# Altium schematic symbol library myLib.SchLib: 33 symbols
Pins are listed as number, name and electrical type; pins without a type are passive.

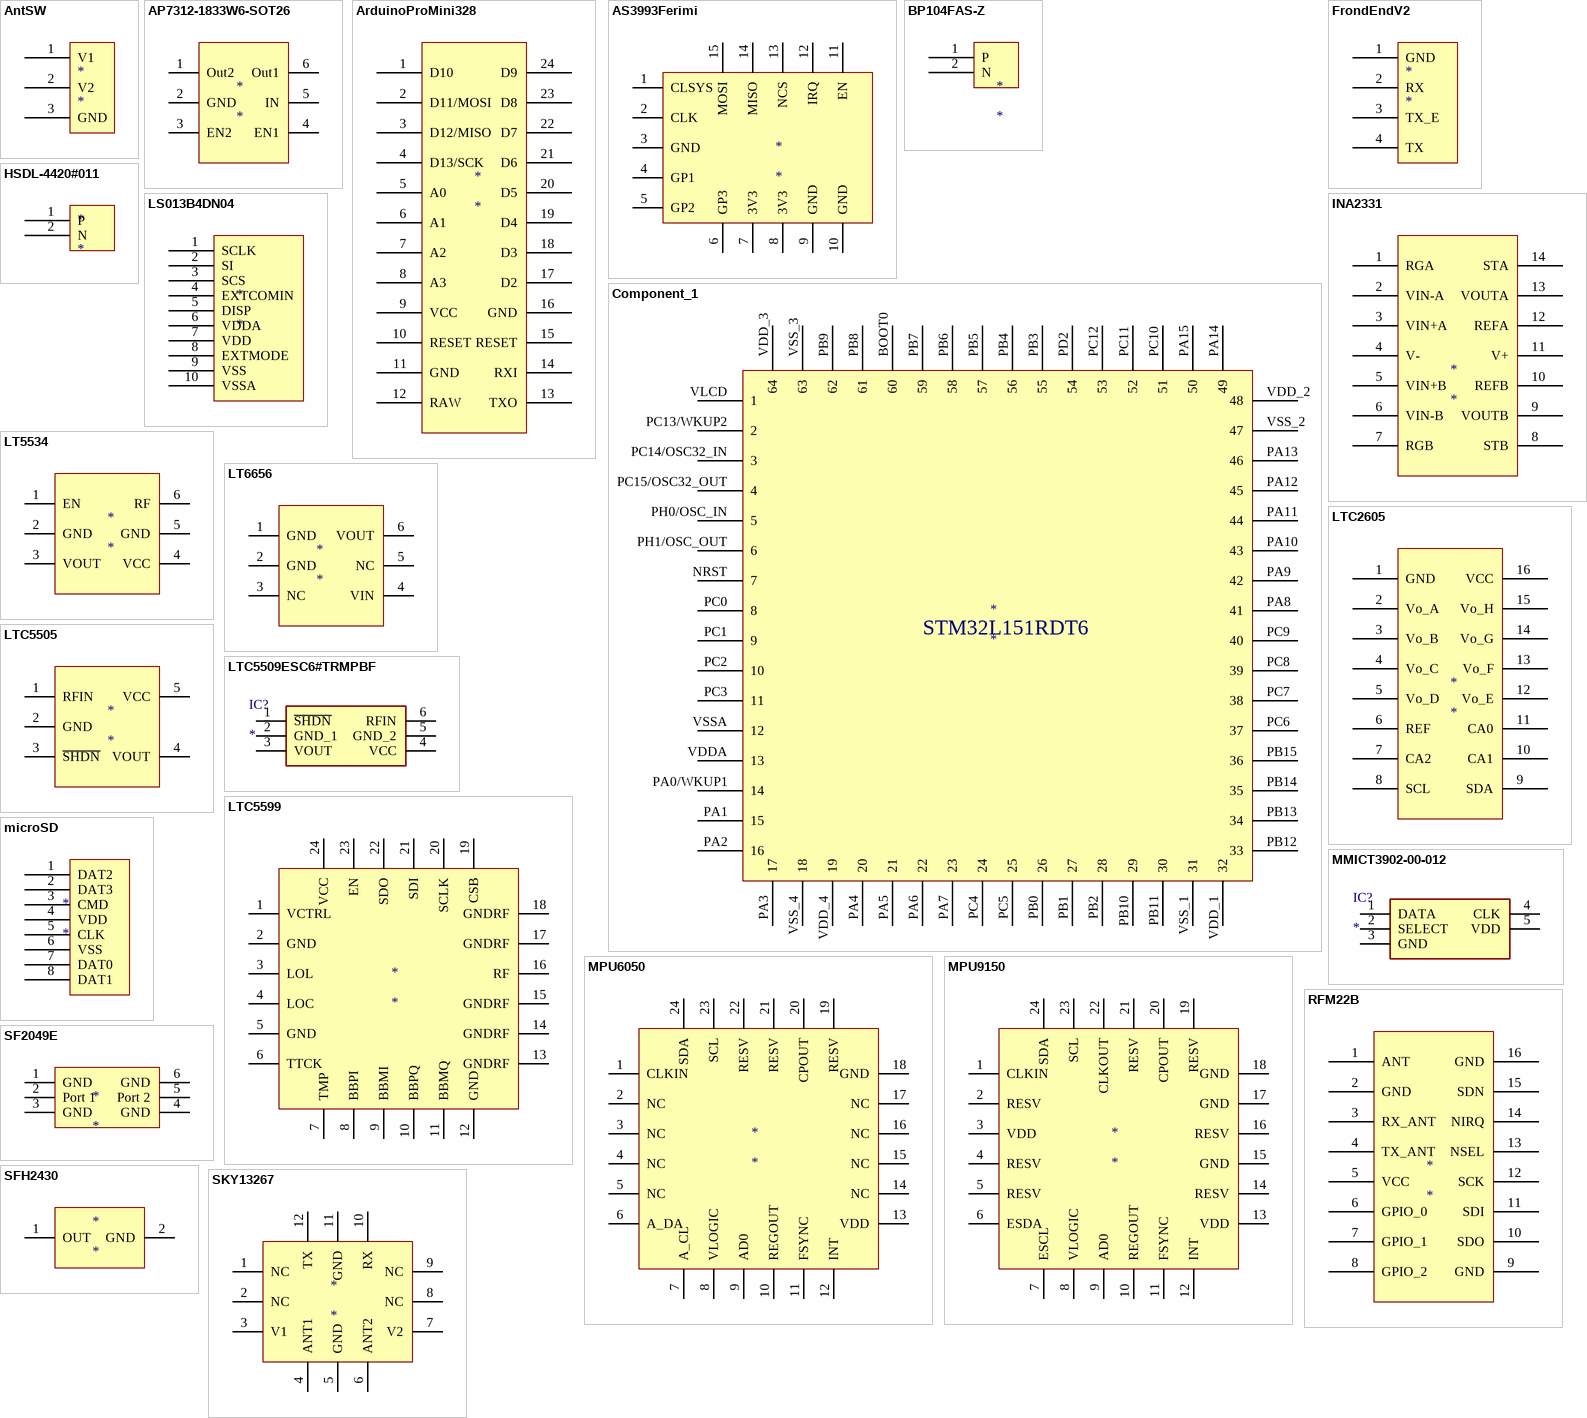
[diagram p0: symbols AntSW to SKY13267]

## AntSW
designator *
footprint AntSW
pins: 1 V1, 2 V2, 3 GND

## AP7312-1833W6-SOT26
designator *
pins: 1 Out2, 2 GND, 3 EN2, 4 EN1, 5 IN, 6 Out1

## ArduinoProMini328
designator *
footprint ArduinoProMini
pins: 1 D10, 2 D11/MOSI, 3 D12/MISO, 4 D13/SCK, 5 A0, 6 A1, 7 A2, 8 A3, 9 VCC, 10 RESET, 11 GND, 12 RAW, 13 TXO, 14 RXI, 15 RESET, 16 GND, 17 D2, 18 D3, 19 D4, 20 D5, 21 D6, 22 D7, 23 D8, 24 D9

## AS3993Ferimi
designator *
footprint AS3993Fermi
pins: 1 CLSYS, 2 CLK, 3 GND, 4 GP1, 5 GP2, 6 GP3, 7 3V3, 8 3V3, 9 GND, 10 GND, 11 EN, 12 IRQ, 13 NCS, 14 MISO, 15 MOSI

## BP104FAS-Z
designator *
pins: 1 P, 2 N

## Component_1
designator *
pins: BOOT0 60, NRST 7, PA0/WKUP1 14, PA1 15, PA2 16, PA3 17, PA4 20, PA5 21, PA6 22, PA7 23, PA8 41, PA9 42, PA10 43, PA11 44, PA12 45, PA13 46, PA14 49, PA15 50, PB0 26, PB1 27, PB2 28, PB3 55, PB4 56, PB5 57, PB6 58, PB7 59, PB8 61, PB9 62, PB10 29, PB11 30, PB12 33, PB13 34, PB14 35, PB15 36, PC0 8, PC1 9, PC2 10, PC3 11, PC4 24, PC5 25, PC6 37, PC7 38, PC8 39, PC9 40, PC10 51, PC11 52, PC12 53, PC13/WKUP2 2, PC14/OSC32_IN 3, PC15/OSC32_OUT 4, PD2 54, PH0/OSC_IN 5, PH1/OSC_OUT 6, VDD_1 32, VDD_2 48, VDD_3 64, VDD_4 19, VDDA 13, VLCD 1, VSS_1 31, VSS_2 47, VSS_3 63, VSS_4 18, VSSA 12
text: STM32L151RDT6

## FrondEndV2
designator *
footprint FrondEndV2
pins: 1 GND, 2 RX, 3 TX_E, 4 TX

## HSDL-4420#011
designator *
pins: 1 P, 2 N

## INA2331
designator *
footprint INA2331 (TSOP, 14-Leads, Body 5.00x4.40mm, Pitch 0.65mm, IPC Medium Density)
pins: 1 RGA, 2 VIN-A, 3 VIN+A, 4 V-, 5 VIN+B, 6 VIN-B, 7 RGB, 8 STB, 9 VOUTB, 10 REFB, 11 V+, 12 REFA, 13 VOUTA, 14 STA

## LS013B4DN04
designator *
pins: 1 SCLK, 2 SI, 3 SCS, 4 EXTCOMIN, 5 DISP, 6 VDDA, 7 VDD, 8 EXTMODE, 9 VSS, 10 VSSA

## LT5534
designator *
pins: 1 EN , 2 GND, 3 VOUT, 4 VCC, 5 GND, 6 RF

## LT6656
designator *
pins: 1 GND, 2 GND, 3 NC, 4 VIN, 5 NC, 6 VOUT

## LTC2605
designator *
pins: 1 GND, 2 Vo_A, 3 Vo_B, 4 Vo_C, 5 Vo_D, 6 REF, 7 CA2, 8 SCL, 9 SDA, 10 CA1, 11 CA0, 12 Vo_E, 13 Vo_F, 14 Vo_G, 15 Vo_H, 16 VCC

## LTC5505
designator *
pins: 1 RFIN, 2 GND, 3 ~{SHDN}, 4 VOUT, 5 VCC

## LTC5509ESC6#TRMPBF
designator IC?
Integrated Circuit; Manufacturer_Name: Analog Devices; Manufacturer_Part_Number: LTC5509ESC6#TRMPBF; Height: 1mm
footprint SOT65P210X100-6N
pins: 1 ~{SHDN}, 2 GND_1, 3 VOUT, 4 VCC, 5 GND_2, 6 RFIN

## LTC5599
designator *
pins: 1 VCTRL, 2 GND, 3 LOL, 4 LOC, 5 GND, 6 TTCK, 7 TMP, 8 BBPI, 9 BBMI, 10 BBPQ, 11 BBMQ, 12 GND, 13 GNDRF, 14 GNDRF, 15 GNDRF, 16 RF, 17 GNDRF, 18 GNDRF, 19 CSB, 20 SCLK, 21 SDI, 22 SDO, 23 EN, 24 VCC

## microSD
designator *
pins: 1 DAT2, 2 DAT3, 3 CMD, 4 VDD, 5 CLK, 6 VSS, 7 DAT0, 8 DAT1

## MMICT3902-00-012
designator IC?
Integrated Circuit; Manufacturer_Name: TDK; Manufacturer_Part_Number: MMICT3902-00-012; Datasheet Link: http://invensense.tdk.com/wp-content/uploads/2020/05/DS-000357-T3902-v1.0.pdf; Height: 1.13mm
footprint MMICT390200012
pins: 1 DATA, 2 SELECT, 3 GND, 4 CLK, 5 VDD

## MPU6050
designator *
pins: 1 CLKIN, 2 NC, 3 NC, 4 NC, 5 NC, 6 A_DA, 7 A_CL, 8 VLOGIC, 9 AD0, 10 REGOUT, 11 FSYNC, 12 INT, 13 VDD, 14 NC, 15 NC, 16 NC, 17 NC, 18 GND, 19 RESV, 20 CPOUT, 21 RESV, 22 RESV, 23 SCL, 24 SDA

## MPU9150
designator *
pins: 1 CLKIN, 2 RESV, 3 VDD, 4 RESV, 5 RESV, 6 ESDA, 7 ESCL, 8 VLOGIC, 9 AD0, 10 REGOUT, 11 FSYNC, 12 INT, 13 VDD, 14 RESV, 15 GND, 16 RESV, 17 GND, 18 GND, 19 RESV, 20 CPOUT, 21 RESV, 22 CLKOUT, 23 SCL, 24 SDA

## RFM22B
designator *
footprint RFM22BS2
pins: 1 ANT, 2 GND, 3 RX_ANT, 4 TX_ANT, 5 VCC, 6 GPIO_0, 7 GPIO_1, 8 GPIO_2, 9 GND, 10 SDO, 11 SDI, 12 SCK, 13 NSEL, 14 NIRQ, 15 SDN, 16 GND

## SF2049E
designator *
footprint SF2049E
pins: 1 GND, 2 Port 1, 3 GND, 4 GND, 5 Port 2, 6 GND

## SFH2430
designator *
pins: 1 OUT, 2 GND

## SKY13267
designator *
pins: 1 NC, 2 NC, 3 V1, 4 ANT1, 5 GND, 6 ANT2, 7 V2, 8 NC, 9 NC, 10 RX, 11 GND, 12 TX

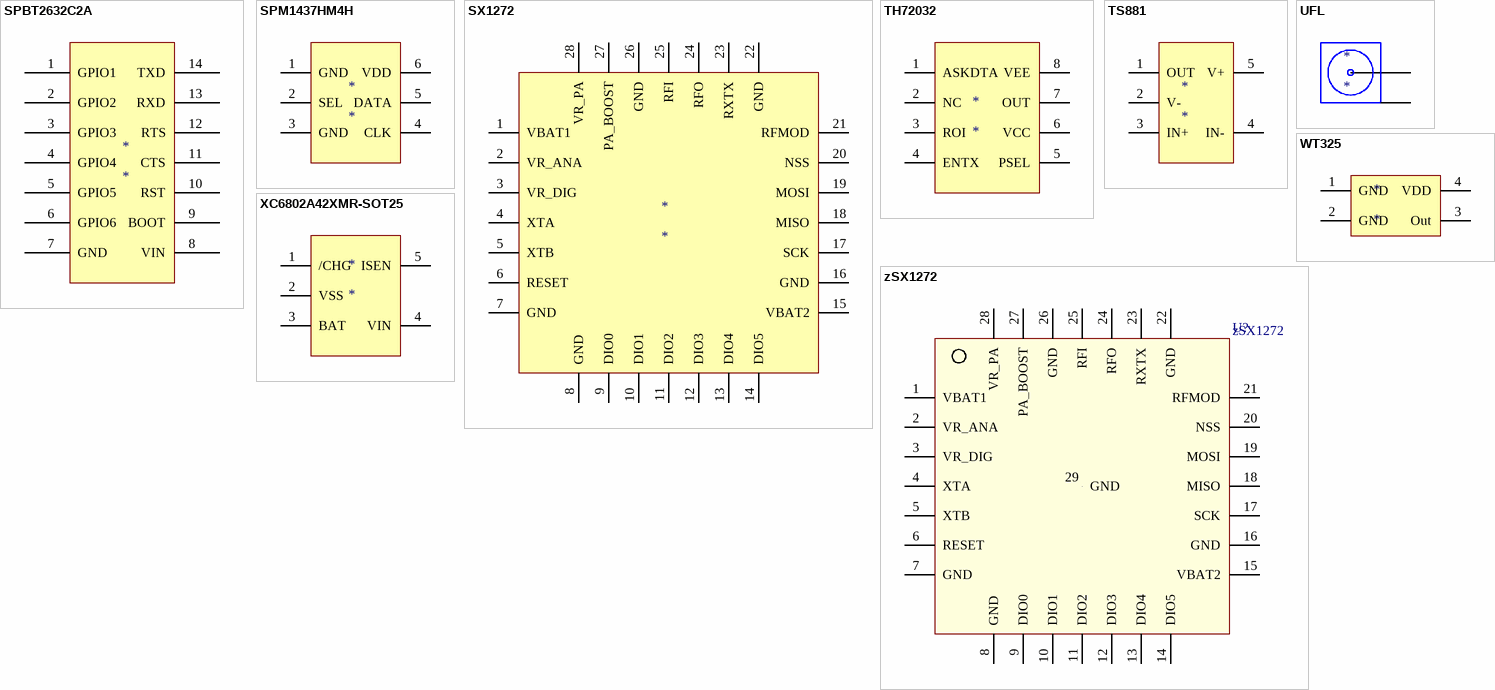
[diagram p1: symbols SPBT2632C2A to zSX1272]

## SPBT2632C2A
designator *
footprint SPBT2632C2A
pins: 1 GPIO1, 2 GPIO2, 3 GPIO3, 4 GPIO4, 5 GPIO5, 6 GPIO6, 7 GND, 8 VIN, 9 BOOT, 10 RST, 11 CTS, 12 RTS, 13 RXD, 14 TXD

## SPM1437HM4H
designator *
pins: 1 GND, 2 SEL, 3 GND, 4 CLK, 5 DATA, 6 VDD

## SX1272
designator *
footprint vqfn28_6x6mm (28 Leads, Body 6.0x6.0mm, Pitch 0.65mm, VQFN28)
pins: 1 VBAT1, 2 VR_ANA, 3 VR_DIG, 4 XTA, 5 XTB, 6 RESET, 7 GND, 8 GND, 9 DIO0, 10 DIO1, 11 DIO2, 12 DIO3, 13 DIO4, 14 DIO5, 15 VBAT2, 16 GND, 17 SCK, 18 MISO, 19 MOSI, 20 NSS, 21 RFMOD, 22 GND, 23 RXTX, 24 RFO, 25 RFI, 26 GND, 27 PA_BOOST, 28 VR_PA

## TH72032
designator *
pins: 1 ASKDTA, 2 NC, 3 ROI, 4 ENTX, 5 PSEL, 6 VCC, 7 OUT, 8 VEE

## TS881
designator *
footprint TS881 (SOT23, 5-Leads, Body 2.90x2.80mm, Pitch 0.95mm, IPC Medium Density)
pins: 1 OUT, 2 V-, 3 IN+, 4 IN-, 5 V+

## UFL
designator *
pins: 1, 2

## WT325
designator *
footprint WT325
pins: 1 GND, 2 GND, 3 Out, 4 VDD

## XC6802A42XMR-SOT25
designator *
pins: 1 /CHG, 2 VSS, 3 BAT, 4 VIN, 5 ISEN

## zSX1272
designator U?
SX1272 - Low Power Integrated UHF Transceiver with Lora technology; LatestRevisionDate: 12-Sep-2012 -  Semtech
footprint vqfn28_6x6mm (28 Leads, Body 6.0x6.0mm, Pitch 0.65mm, VQFN28)
pins: 1 VBAT1, 2 VR_ANA, 3 VR_DIG, 4 XTA, 5 XTB, 6 RESET, 7 GND, 8 GND, 9 DIO0, 10 DIO1, 11 DIO2, 12 DIO3, 13 DIO4, 14 DIO5, 15 VBAT2, 16 GND, 17 SCK, 18 MISO, 19 MOSI, 20 NSS, 21 RFMOD, 22 GND, 23 RXTX, 24 RFO, 25 RFI, 26 GND, 27 PA_BOOST, 28 VR_PA, 29 GND